# Altium schematic symbol library Diodes (Schottky).SchLib: 1 symbol
Pins are listed as number, name and electrical type; pins without a type are passive.

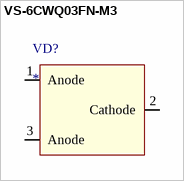
[diagram p0: symbol VS-6CWQ03FN-M3]

## VS-6CWQ03FN-M3
designator VD?
Common cathode, schottky diode; Vf(max): 0.52; If(per leg): 3.5A; Tj (max): 150°C; Vr: 30V
footprint D-PAK / TO-252AA
pins: 1 Anode, 2 Cathode, 3 Anode